# EAGLE library part LA6585 (library Eagle_CAD_parts)
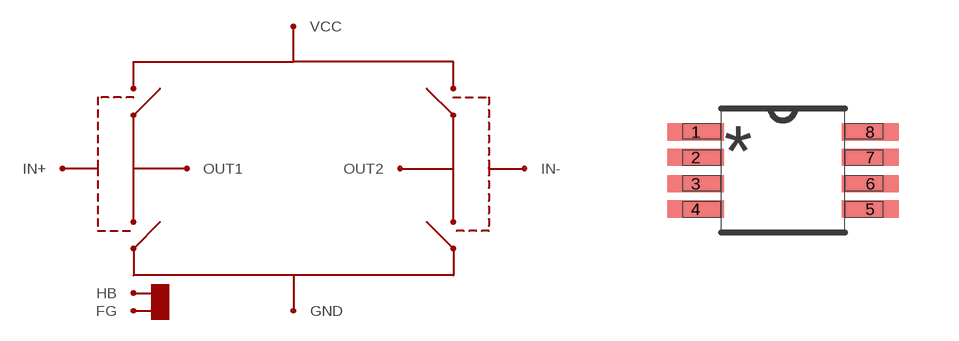
[diagram p1: symbol with the pads of 8-MSOP; footprint 8-MSOP]

Designator prefix -

## LA6585_SMD  [8-MSOP]
1  IN+
2  IN-
3  HB
4  OUT1
5  GND
6  OUT2
7  VCC
8  FG

## Footprint 8-MSOP (pad centres in mm)
smd 1.422 x 0.432: 1 -2.184,0.965; 2 -2.184,0.33; 3 -2.184,-0.33; 4 -2.184,-0.965; 5 2.184,-0.965; 6 2.184,-0.33; 7 2.184,0.33; 8 2.184,0.965